# Altium schematic symbol library MAX30102EFD+T.SchLib: 1 symbol
Pins are listed as number, name and electrical type; pins without a type are passive.

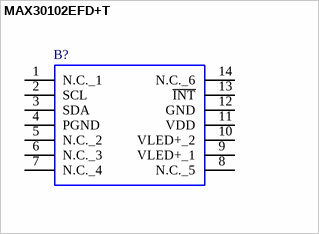
[diagram p0: symbol MAX30102EFD+T]

## MAX30102EFD+T
designator B?
Biometric Sensors Integrated Optical Sensor; Manufacturer_Name: Maxim Integrated; Geometry.Height: 1.65mm; Manufacturer_Part_Number: MAX30102EFD+T; Mouser Part Number: 700-MAX30102EFD+T; Mouser Price/Stock: https://www.mouser.co.uk/ProductDetail/Maxim-Integrated/MAX30102EFD%2bT?qs=nVS1qgv%252BQrkHA4%2FoFYriFA%3D%3D; Arrow Part Number: MAX30102EFD+T; Arrow Price/Stock: https://www.arrow.com/en/products/max30102efdt/maxim-integrated?region=nac; Mouser Testing Part Number: *; Mouser Testing Price/Stock: *; Datasheet Link: https://datasheets.maximintegrated.com/en/ds/MAX30102.pdf
footprint MAX30102EFDT
pins: 1 N.C._1, 2 SCL, 3 SDA, 4 PGND, 5 N.C._2, 6 N.C._3, 7 N.C._4, 8 N.C._5, 9 VLED+_1, 10 VLED+_2, 11 VDD, 12 GND, 13 ~{INT}, 14 N.C._6